# Altium footprint library SparkFun-Connectors.PCBLIB: 305 footprints (part 6 of 20)
Each footprint in its own frame and in the unit in brackets; x right, y up, seen from the top. Pads: shape width x height; smd on the part's side, far side on the other; paste and mask are expansions set on the pad; w line width, h text height; cw(c..) or ccw(c..) is an arc to the next point about the centre after c.
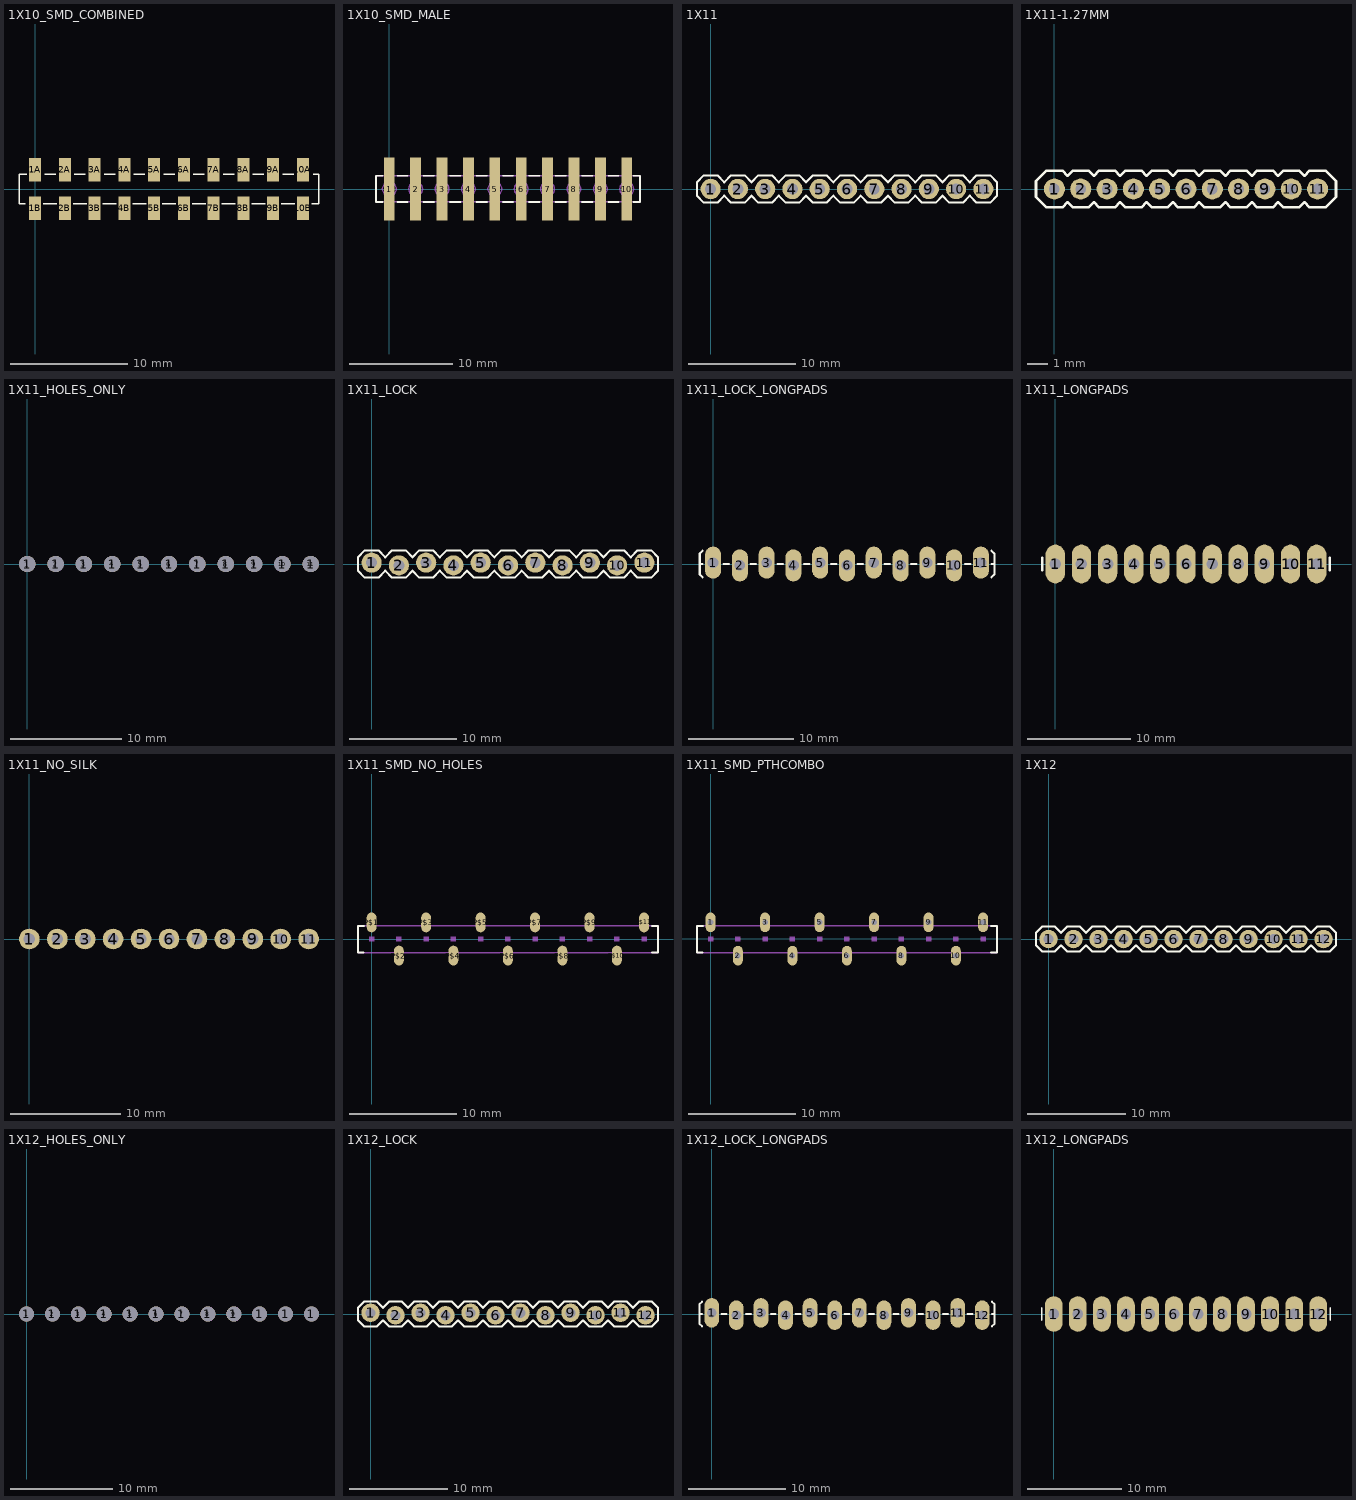
[diagram p5: the footprints below, top view; thin cyan lines are the x and y axes]

## 1X10_SMD_COMBINED [mil]
pads (20):
  rect 40x79 smd: 1A(0,65) 1B(0,-64.96) 2A(100,65) 2B(100,-64.96) 3A(200,65) 3B(200,-64.96) 4A(300,65) 4B(300,-64.96) 5A(400,65) 5B(400,-64.96) 6A(500,65) 6B(500,-64.96) 7A(600,65) 7B(600,-64.96) 8A(700,65) 8B(700,-64.96) 9A(800,65) 9B(800,-64.96) 10A(900,65) 10B(900,-64.96)
Top Overlay:
  lines w5: -33.46,-49.21 -53.94,-49.21 -53.94,50 -28.46,50 ; 28,-49.21 73,-49.21 ; 32,50 69,50 ; 128,-49.21 173,-49.21 ; 132,50 169,50 ; 228,-49.21 273,-49.21 ; 232,50 269,50 ; 328,-49.21 373,-49.21 ; 332,50 369,50 ; 428,-49.21 473,-49.21 ; 432,50 469,50 ; 528,-49.21 573,-49.21 ; 532,50 569,50 ; 628,-49.21 673,-49.21 ; 632,50 669,50 ; 728,-49.21 773,-49.21 ; 732,50 769,50 ; 828,-49.21 873,-49.21 ; 832,50 869,50 ; 929,-49.21 954,-49.21 954,50 934,50

## 1X10_SMD_MALE [mil]
pads (10):
  rect 41x237 smd: 1(0,0) 2(100,0) 3(200,0) 4(300,0) 5(400,0) 6(500,0) 7(600,0) 8(700,0) 9(800,0) 10(900,0)
Top Overlay:
  lines w7: -25,-49.21 -50,-49.21 -50,50 -25,50 ; 30,-49.21 70,-49.21 ; 30,50 70,50 ; 130,-49.21 170,-49.21 ; 130,50 170,50 ; 230,-49.21 270,-49.21 ; 230,50 270,50 ; 330,-49.21 370,-49.21 ; 330,50 370,50 ; 430,-49.21 470,-49.21 ; 430,50 470,50 ; 530,-49.21 570,-49.21 ; 530,50 570,50 ; 630,-49.21 670,-49.21 ; 630,50 670,50 ; 730,-49.21 770,-49.21 ; 730,50 770,50 ; 830,-49.21 870,-49.21 ; 830,50 870,50 ; 925,-49.21 950,-49.21 950,50 925,50
Mechanical 16:
  circle w5: c0,0 r26
  circle w5: c100,0 r26
  circle w5: c200,0 r26
  circle w5: c300,0 r26
  circle w5: c400,0 r26
  circle w5: c500,0 r26
  circle w5: c600,0 r26
  circle w5: c700,0 r26
  circle w5: c800,0 r26
  circle w5: c900,0 r26
  rectangle: -12.6,0 13,109
  rectangle: 188,0 213,109
  rectangle: 388,0 413,109
  region: 113,0 88,0 88,-108.27 113,-108.27
  region: 313,0 288,0 288,-108.27 313,-108.27
  region: 513,0 488,0 488,-108.27 513,-108.27
  rectangle: 588,0 613,109
  region: 713,0 688,0 688,-108.27 713,-108.27
  region: 913,0 888,0 888,-108.27 913,-108.27
  rectangle: 788,0 813,109
  lines w5: -50,-49.21 -50,50 950,50 950,-49.21 -50,-49.21

## 1X11 [mil]
pads (11):
  round 74 hole 40: 1(0,0) 2(100,0) 3(200,0) 4(300,0) 5(400,0) 6(500,0) 7(600,0) 8(700,0) 9(800,0) 10(900,0) 11(1000,0)
Top Overlay:
  lines w8: -50,-25 -50,25 -25,50 25,50 50,25 75,50 125,50 150,25 175,50 225,50 250,25 275,50 325,50 350,25 375,50 425,50 450,25 475,50 525,50 550,25 575,50 625,50 650,25 675,50 725,50 750,25 775,50 825,50 850,25 875,50 925,50 950,25 975,50 1025,50 1050,25 1050,-25 1025,-50 975,-50 950,-25 925,-50 875,-50 850,-25 825,-50 775,-50 750,-25 725,-50 675,-50 650,-25 625,-50 575,-50 550,-25 525,-50 475,-50 450,-25 425,-50 375,-50 350,-25 325,-50 275,-50 250,-25 225,-50 175,-50 150,-25 125,-50 75,-50 50,-25 25,-50 -25,-50 -50,-25
Mechanical 16:
  rectangle: 590,-10 610,10
  rectangle: 490,-10 510,10
  rectangle: 390,-10 410,10
  rectangle: 290,-10 310,10
  rectangle: 190,-10 210,10
  rectangle: 90,-10 110,10
  rectangle: -10,-10 10,10
  rectangle: 690,-10 710,10
  rectangle: 790,-10 810,10
  rectangle: 890,-10 910,10
  rectangle: 990,-10 1010,10

## 1X11-1.27MM [mil]
pads (11):
  round 40 hole 20: 1(0,0) 2(50,0) 3(100,0) 4(150,0) 5(200,0) 6(250,0) 7(300,0) 8(350,0) 9(400,0) 10(450,0) 11(500,0)
Top Overlay:
  lines w5: -35,-15 -35,15 -15,35 15,35 25,25 35,35 65,35 75,25 85,35 115,35 125,25 135,35 165,35 175,25 185,35 215,35 225,25 235,35 265,35 275,25 285,35 315,35 325,25 335,35 365,35 375,25 385,35 415,35 425,25 435,35 465,35 475,25 485,35 515,35 535,15 535,-15 515,-35 485,-35 475,-25 465,-35 435,-35 425,-25 415,-35 385,-35 375,-25 365,-35 335,-35 325,-25 315,-35 285,-35 275,-25 265,-35 235,-35 225,-25 215,-35 185,-35 175,-25 165,-35 135,-35 125,-25 115,-35 85,-35 75,-25 65,-35 35,-35 25,-25 15,-35 -15,-35 -35,-15

## 1X11_HOLES_ONLY [mil]
pads (22):
  round 32 hole 35: 1(0,0) 2(100,0) 3(200,0) 4(300,0) 5(400,0) 6(500,0) 7(600,0) 8(700,0) 9(800,0) 10(900,0) 11(1000,0)
  round 58 hole 58: 1(0,0) 1(100,0) 1(200,0) 1(300,0) 1(400,0) 1(500,0) 1(600,0) 1(700,0) 1(800,0) 1(900,0) 1(1000,0)
Mechanical 16:
  circle w5: c0,0 r25
  circle w5: c100,0 r25
  circle w5: c200,0 r25
  circle w5: c300,0 r25
  circle w5: c400,0 r25
  circle w5: c500,0 r25
  circle w5: c600,0 r25
  circle w5: c700,0 r25
  circle w5: c800,0 r25
  circle w5: c900,0 r25
  circle w5: c1000,0 r25

## 1X11_LOCK [mil]
pads (11):
  round 74 hole 40: 1(0,5) 2(100,-5) 3(200,5) 4(300,-5) 5(400,5) 6(500,-5) 7(600,5) 8(700,-5) 9(800,5) 10(900,-5) 11(1000,5)
Top Overlay:
  lines w8: -50,-25 -50,25 -25,50 25,50 50,25 75,50 125,50 150,25 175,50 225,50 250,25 275,50 325,50 350,25 375,50 425,50 450,25 475,50 525,50 550,25 575,50 625,50 650,25 675,50 725,50 750,25 775,50 825,50 850,25 875,50 925,50 950,25 975,50 1025,50 1050,25 1050,-25 1025,-50 975,-50 950,-25 925,-50 875,-50 850,-25 825,-50 775,-50 750,-25 725,-50 675,-50 650,-25 625,-50 575,-50 550,-25 525,-50 475,-50 450,-25 425,-50 375,-50 350,-25 325,-50 275,-50 250,-25 225,-50 175,-50 150,-25 125,-50 75,-50 50,-25 25,-50 -25,-50 -50,-25
Mechanical 16:
  rectangle: 590,-10 610,10
  rectangle: 490,-10 510,10
  rectangle: 390,-10 410,10
  rectangle: 290,-10 310,10
  rectangle: 190,-10 210,10
  rectangle: 90,-10 110,10
  rectangle: -10,-10 10,10
  rectangle: 690,-10 710,10
  rectangle: 790,-10 810,10
  rectangle: 890,-10 910,10
  rectangle: 990,-10 1010,10

## 1X11_LOCK_LONGPADS [mil]
pads (11):
  oval 60x120 hole 40: 1(0,5) 2(100,-5) 3(200,5) 4(300,-5) 5(400,5) 6(500,-5) 7(600,5) 8(700,-5) 9(800,5) 10(900,-5) 11(1000,5)
Top Overlay:
  lines w8: -40,0 -50,0 ; -39,-50 -50,-39 -50,0 ; -39,50 -50,39 -50,0 ; 40,0 60,0 ; 140,0 160,0 ; 240,0 260,0 ; 340,0 360,0 ; 440,0 460,0 ; 540,0 560,0 ; 640,0 660,0 ; 740,0 760,0 ; 840,0 860,0 ; 940,0 960,0 ; 1039,-50 1050,-39 1050,0 ; 1039,50 1050,39 1050,0 ; 1040,0 1050,0
Mechanical 16:
  rectangle: -11.5,-11.5 12,12
  rectangle: 89,-11.5 112,12
  rectangle: 189,-11.5 212,12
  region: 312.25,-11.25 312.25,11.75 288.75,11.75 288.75,-11.25
  rectangle: 389,-11.5 412,12
  rectangle: 489,-11.5 512,12
  rectangle: 589,-11.5 612,12
  rectangle: 689,-11.5 712,12
  rectangle: 789,-11.5 812,12
  region: 912.25,-11.25 912.25,11.75 888.75,11.75 888.75,-11.25
  rectangle: 989,-11.5 1012,12

## 1X11_LONGPADS [mil]
pads (11):
  oval 74x148 hole 44: 1(0,0) 2(100,0) 3(200,0) 4(300,0) 5(400,0) 6(500,0) 7(600,0) 8(700,0) 9(800,0) 10(900,0) 11(1000,0)
Top Overlay:
  lines w8: -50,-25 -50,25 ; 1050,-25 1050,25
Mechanical 16:
  rectangle: 590,-10 610,10
  rectangle: 490,-10 510,10
  rectangle: 390,-10 410,10
  rectangle: 290,-10 310,10
  rectangle: 190,-10 210,10
  rectangle: 90,-10 110,10
  rectangle: -10,-10 10,10
  rectangle: 690,-10 710,10
  rectangle: 790,-10 810,10
  rectangle: 890,-10 910,10
  rectangle: 990,-10 1010,10

## 1X11_NO_SILK [mil]
pads (11):
  round 74 hole 40: 1(0,0) 2(100,0) 3(200,0) 4(300,0) 5(400,0) 6(500,0) 7(600,0) 8(700,0) 9(800,0) 10(900,0) 11(1000,0)
Mechanical 16:
  rectangle: 590,-10 610,10
  rectangle: 490,-10 510,10
  rectangle: 390,-10 410,10
  rectangle: 290,-10 310,10
  rectangle: 190,-10 210,10
  rectangle: 90,-10 110,10
  rectangle: -10,-10 10,10
  rectangle: 690,-10 710,10
  rectangle: 790,-10 810,10
  rectangle: 890,-10 910,10
  rectangle: 990,-10 1010,10

## 1X11_SMD_NO_HOLES [mil]
pads (11):
  rrect100% 36x73 smd: P$1(0,61) P$2(100,-61) P$3(200,61) P$4(300,-61) P$5(400,61) P$6(500,-61) P$7(600,61) P$8(700,-61) P$9(800,61) P$10(900,-61) P$11(1000,61)
Top Overlay:
  lines w8: -30,-50 -50,-50 -50,48 -29,48 ; 1030,-50 1051,-50 1051,48 1030,48
Mechanical 16:
  rectangle: 590,-10 610,10
  rectangle: 490,-10 510,10
  rectangle: 390,-10 410,10
  rectangle: 290,-10 310,10
  rectangle: 190,-10 210,10
  rectangle: 90,-10 110,10
  rectangle: -10,-10 10,10
  rectangle: 690,-10 710,10
  rectangle: 790,-10 810,10
  rectangle: 890,-10 910,10
  rectangle: 990,-10 1010,10
  lines w5: -50,-50 1050,-50 1050,49 -50,49 -50,-50

## 1X11_SMD_PTHCOMBO [mil]
pads (11):
  oval 36x72 hole 21: 1(-0.1,61) 2(100,-61.1) 3(200,61) 4(300,-61.1) 5(400,61) 6(500,-61.1) 7(600,61) 8(700,-61.1) 9(800,61) 10(900,-61.1) 11(1000,61)
Top Overlay:
  lines w8: -30,-50 -50,-50 -50,48 -29,48 ; 1030,-50 1051,-50 1051,48 1030,48
Top Paste:
  region: 0,0 10,0 10,10 0,10
  region: 0,0 10,0 10,10 0,10
  region: 0,0 10,0 10,10 0,10
  region: 0,0 10,0 10,10 0,10
  region: 0,0 10,0 10,10 0,10
  region: 0,0 10,0 10,10 0,10
  region: 0,0 10,0 10,10 0,10
  region: 0,0 10,0 10,10 0,10
  region: 0,0 10,0 10,10 0,10
  region: 0,0 10,0 10,10 0,10
  region: 0,0 10,0 10,10 0,10
Mechanical 16:
  rectangle: 590,-10 610,10
  rectangle: 490,-10 510,10
  rectangle: 390,-10 410,10
  rectangle: 290,-10 310,10
  rectangle: 190,-10 210,10
  rectangle: 90,-10 110,10
  rectangle: -10,-10 10,10
  rectangle: 690,-10 710,10
  rectangle: 790,-10 810,10
  rectangle: 890,-10 910,10
  rectangle: 990,-10 1010,10
  lines w5: -50,-50 1050,-50 1050,49 -50,49 -50,-50

## 1X12 [mil]
pads (12):
  round 74 hole 40: 1(0,0) 2(100,0) 3(200,0) 4(300,0) 5(400,0) 6(500,0) 7(600,0) 8(700,0) 9(800,0) 10(900,0) 11(1000,0) 12(1100,0)
Top Overlay:
  lines w8: -50,-25 -50,25 -25,50 25,50 50,25 75,50 125,50 150,25 175,50 225,50 250,25 275,50 325,50 350,25 375,50 425,50 450,25 475,50 525,50 550,25 575,50 625,50 650,25 675,50 725,50 750,25 775,50 825,50 850,25 875,50 925,50 950,25 975,50 1025,50 1050,25 1075,50 1125,50 1150,25 1150,-25 1125,-50 1075,-50 1050,-25 1025,-50 975,-50 950,-25 925,-50 875,-50 850,-25 825,-50 775,-50 750,-25 725,-50 675,-50 650,-25 625,-50 575,-50 550,-25 525,-50 475,-50 450,-25 425,-50 375,-50 350,-25 325,-50 275,-50 250,-25 225,-50 175,-50 150,-25 125,-50 75,-50 50,-25 25,-50 -25,-50 -50,-25
Mechanical 16:
  rectangle: 590,-10 610,10
  rectangle: 490,-10 510,10
  rectangle: 390,-10 410,10
  rectangle: 290,-10 310,10
  rectangle: 190,-10 210,10
  rectangle: 90,-10 110,10
  rectangle: -10,-10 10,10
  rectangle: 690,-10 710,10
  rectangle: 790,-10 810,10
  rectangle: 890,-10 910,10
  rectangle: 990,-10 1010,10
  rectangle: 1090,-10 1110,10

## 1X12_HOLES_ONLY [mil]
pads (24):
  round 32 hole 35: 1(0,0) 2(100,0) 3(200,0) 4(300,0) 5(400,0) 6(500,0) 7(600,0) 8(700,0) 9(800,0) 10(900,0) 11(1000,0) 12(1100,0)
  round 58 hole 58: 1(0,0) 1(100,0) 1(200,0) 1(300,0) 1(400,0) 1(500,0) 1(600,0) 1(700,0) 1(800,0) 1(900,0) 1(1000,0) 1(1100,0)
Mechanical 16:
  circle w5: c0,0 r25
  circle w5: c100,0 r25
  circle w5: c200,0 r25
  circle w5: c300,0 r25
  circle w5: c400,0 r25
  circle w5: c500,0 r25
  circle w5: c600,0 r25
  circle w5: c700,0 r25
  circle w5: c800,0 r25
  circle w5: c900,0 r25
  circle w5: c1000,0 r25
  circle w5: c1100,0 r25

## 1X12_LOCK [mil]
pads (12):
  round 74 hole 40: 1(0,5) 2(100,-5) 3(200,5) 4(300,-5) 5(400,5) 6(500,-5) 7(600,5) 8(700,-5) 9(800,5) 10(900,-5) 11(1000,5) 12(1100,-5)
Top Overlay:
  lines w8: -50,-25 -50,25 -25,50 25,50 50,25 75,50 125,50 150,25 175,50 225,50 250,25 275,50 325,50 350,25 375,50 425,50 450,25 475,50 525,50 550,25 575,50 625,50 650,25 675,50 725,50 750,25 775,50 825,50 850,25 875,50 925,50 950,25 975,50 1025,50 1050,25 1075,50 1125,50 1150,25 1150,-25 1125,-50 1075,-50 1050,-25 1025,-50 975,-50 950,-25 925,-50 875,-50 850,-25 825,-50 775,-50 750,-25 725,-50 675,-50 650,-25 625,-50 575,-50 550,-25 525,-50 475,-50 450,-25 425,-50 375,-50 350,-25 325,-50 275,-50 250,-25 225,-50 175,-50 150,-25 125,-50 75,-50 50,-25 25,-50 -25,-50 -50,-25
Mechanical 16:
  rectangle: 590,-10 610,10
  region: 510,-10 510,10 490,10 490,-10
  rectangle: 390,-10 410,10
  rectangle: 290,-10 310,10
  rectangle: 190,-10 210,10
  rectangle: 90,-10 110,10
  rectangle: -10,-10 10,10
  rectangle: 690,-10 710,10
  rectangle: 790,-10 810,10
  rectangle: 890,-10 910,10
  rectangle: 990,-10 1010,10
  rectangle: 1090,-10 1110,10

## 1X12_LOCK_LONGPADS [mil]
pads (12):
  oval 60x120 hole 40: 1(0,5) 2(100,-5) 3(200,5) 4(300,-5) 5(400,5) 6(500,-5) 7(600,5) 8(700,-5) 9(800,5) 10(900,-5) 11(1000,5) 12(1100,-5)
Top Overlay:
  lines w8: -40,0 -50,0 ; -39,-50 -50,-39 -50,0 ; -39,50 -50,39 -50,0 ; 40,0 60,0 ; 140,0 160,0 ; 240,0 260,0 ; 340,0 360,0 ; 440,0 460,0 ; 540,0 560,0 ; 640,0 660,0 ; 740,0 760,0 ; 840,0 860,0 ; 940,0 960,0 ; 1040,0 1060,0 ; 1139,-50 1150,-39 1150,0 ; 1139,50 1150,39 1150,0 ; 1140,0 1150,0
Mechanical 16:
  rectangle: -11.5,-11.5 12,12
  rectangle: 89,-11.5 112,12
  rectangle: 189,-11.5 212,12
  region: 312.25,-11.25 312.25,11.75 288.75,11.75 288.75,-11.25
  rectangle: 389,-11.5 412,12
  rectangle: 489,-11.5 512,12
  rectangle: 589,-11.5 612,12
  rectangle: 689,-11.5 712,12
  rectangle: 789,-11.5 812,12
  region: 912.25,-11.25 912.25,11.75 888.75,11.75 888.75,-11.25
  rectangle: 989,-11.5 1012,12
  rectangle: 1089,-11.5 1112,12

## 1X12_LONGPADS [mil]
pads (12):
  oval 74x148 hole 44: 1(0,0) 2(100,0) 3(200,0) 4(300,0) 5(400,0) 6(500,0) 7(600,0) 8(700,0) 9(800,0) 10(900,0) 11(1000,0) 12(1100,0)
Top Overlay:
  lines w8: -50,-25 -50,25 ; 1150,-25 1150,25
Mechanical 16:
  rectangle: 590,-10 610,10
  rectangle: 490,-10 510,10
  rectangle: 390,-10 410,10
  rectangle: 290,-10 310,10
  rectangle: 190,-10 210,10
  rectangle: 90,-10 110,10
  rectangle: -10,-10 10,10
  rectangle: 690,-10 710,10
  rectangle: 790,-10 810,10
  rectangle: 890,-10 910,10
  rectangle: 990,-10 1010,10
  rectangle: 1090,-10 1110,10